# Altium footprint library PowerDistribution.PcbLib: 27 footprints (part 2 of 2)
Each footprint in its own frame and in the unit in brackets; x right, y up, seen from the top. Pads: shape width x height; smd on the part's side, far side on the other; paste and mask are expansions set on the pad; w line width, h text height; cw(c..) or ccw(c..) is an arc to the next point about the centre after c.
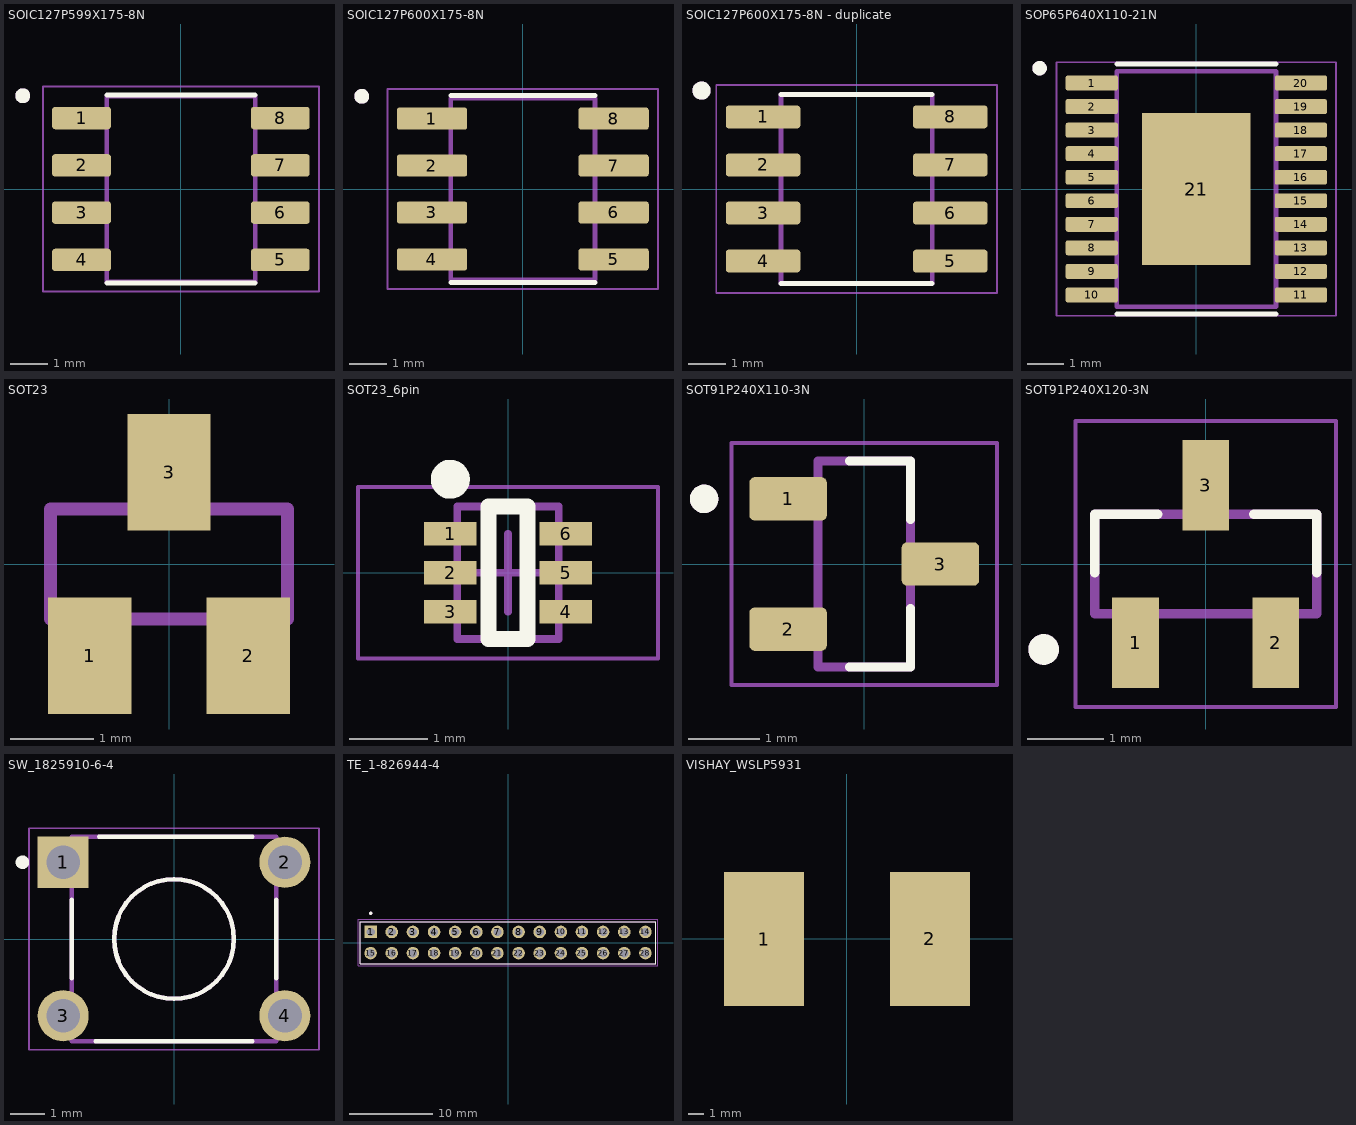
[diagram p1: the footprints below, top view; thin cyan lines are the x and y axes]

## SOIC127P599X175-8N [mm]
pads (8):
  rrect25% 1.58x0.6 smd: 1(-2.67,1.905) 2(-2.67,0.635) 3(-2.67,-0.635) 4(-2.67,-1.905) 5(2.67,-1.905) 6(2.67,-0.635) 7(2.67,0.635) 8(2.67,1.905)
Top Overlay:
  circle w0.2: c-4.25,2.505 r0.1
  lines w0.127: -1.995,-2.525 1.995,-2.525 ; -1.995,2.525 1.995,2.525
Mechanical 13:
  circle w0.2: c-4.25,2.505 r0.1
  lines w0.127: -1.995,-2.5 -1.995,2.5 1.995,2.5 1.995,-2.5 -1.995,-2.5
Mechanical 15:
  lines w0.05: -3.71,-2.75 -3.71,2.75 3.71,2.75 3.71,-2.75 -3.71,-2.75
3D body "step_temp.STEP": height 1.75, standoff 0, extent -3,-2.45 3,2.45

## SOIC127P600X175-8N [mm]
pads (8):
  rrect25% 1.9x0.6 smd: 1(-2.455,1.905) 2(-2.455,0.635) 3(-2.455,-0.635) 4(-2.455,-1.905) 5(2.455,-1.905) 6(2.455,-0.635) 7(2.455,0.635) 8(2.455,1.905)
Top Overlay:
  circle w0.2: c-4.355,2.505 r0.1
  lines w0.127: -1.95,-2.525 1.95,-2.525 ; -1.95,2.525 1.95,2.525
Mechanical 13:
  circle w0.2: c-4.355,2.505 r0.1
  lines w0.127: -1.95,-2.45 1.95,-2.45 1.95,2.45 -1.95,2.45 -1.95,-2.45
Mechanical 15:
  lines w0.05: -3.655,-2.7 3.655,-2.7 3.655,2.7 -3.655,2.7 -3.655,-2.7

## SOIC127P600X175-8N - duplicate [mm]
pads (8):
  rrect25% 1.97x0.6 smd: 1(-2.475,1.905) 2(-2.475,0.635) 3(-2.475,-0.635) 4(-2.475,-1.905) 5(2.475,-1.905) 6(2.475,-0.635) 7(2.475,0.635) 8(2.475,1.905)
Top Overlay:
  circle w0.24: c-4.1,2.6 r0.12
  lines w0.127: -2,-2.5 2,-2.5 ; -2,2.5 2,2.5
Mechanical 13:
  circle w0.24: c-4.1,2.6 r0.12
  lines w0.127: -2,-2.5 2,-2.5 2,2.5 -2,2.5 -2,-2.5
Mechanical 15:
  lines w0.05: -3.71,-2.75 3.71,-2.75 3.71,2.75 -3.71,2.75 -3.71,-2.75

## SOP65P640X110-21N [mm]
pads (21):
  rrect25% 1.44x0.41 smd: 1(-2.885,2.925) 2(-2.885,2.275) 3(-2.885,1.625) 4(-2.885,0.975) 5(-2.885,0.325) 6(-2.885,-0.325) 7(-2.885,-0.975) 8(-2.885,-1.625) 9(-2.885,-2.275) 10(-2.885,-2.925) 11(2.885,-2.925) 12(2.885,-2.275) 13(2.885,-1.625) 14(2.885,-0.975) 15(2.885,-0.325) 16(2.885,0.325) 17(2.885,0.975) 18(2.885,1.625) 19(2.885,2.275) 20(2.885,2.925)
  rect 3x4.2 smd paste-3: 21(0,0)
Top Overlay:
  circle w0.2: c-4.325,3.335 r0.1
  lines w0.127: -2.2,-3.45 2.2,-3.45 ; -2.2,3.45 2.2,3.45
Top Paste:
  region: 0.75,-1.05 -0.75,-1.05 -0.75,1.05 0.75,1.05
Mechanical 13:
  circle w0.2: c-4.325,3.335 r0.1
  lines w0.127: -2.2,-3.25 -2.2,3.25 2.2,3.25 2.2,-3.25 -2.2,-3.25
Mechanical 15:
  lines w0.05: -3.855,-3.5 -3.855,3.5 3.855,3.5 3.855,-3.5 -3.855,-3.5

## SOT23 [mm]
pads (3):
  rect 1x1.4 smd: 1(-0.95,-1.1) 2(0.95,-1.1) 3(0,1.1)
Mechanical 13:
  region: 0.229,0.711 -0.229,0.711 -0.229,1.295 0.229,1.295
  region: 1.168,-1.295 0.711,-1.295 0.711,-0.711 1.168,-0.711
  region: -0.711,-1.295 -1.168,-1.295 -1.168,-0.711 -0.711,-0.711
  lines w0.152: -1.422,-0.66 1.422,-0.66 1.422,0.66 -1.422,0.66 -1.422,-0.66

## SOT23_6pin [mm] "SOT23, 6-Leads, Body 1.60x2.45mm, Pitch 0.50mm, IPC Medium Density"
height 0.6
pads (6):
  rect 0.67x0.3 smd: 1(-0.74,0.5) 2(-0.74,0) 3(-0.74,-0.5) 4(0.74,-0.5) 5(0.74,0) 6(0.74,0.5)
Top Overlay:
  circle w0.25: c-0.74,1.2 r0.125
  lines w0.2: -0.25,-0.85 0.25,-0.85 0.25,0.85 -0.25,0.85 -0.25,-0.85
Mechanical 13:
  lines w0.1: -0.65,-0.85 -0.65,0.85 0.65,0.85 0.65,-0.85 -0.65,-0.85
Mechanical 15:
  lines w0.05: -1.925,-1.1 -1.925,1.1 1.925,1.1 1.925,-1.1 -1.925,-1.1
  lines w0.1: -0.5,0 0.5,0 ; 0,-0.5 0,0.5
3D body: height 0.6, standoff 0.05, extent -0.65,-0.85 0.65,0.85

## SOT91P240X110-3N [mm]
height 1.1
pads (3):
  rrect25% 1.09x0.61 smd: 1(-1.07,0.915) 2(-1.07,-0.915) 3(1.07,0)
Top Overlay:
  circle w0.2: c-2.25,0.915 r0.1
  lines w0.127: -0.205,-1.45 0.65,-1.45 0.65,-0.625 ; -0.205,1.45 0.65,1.45 0.65,0.625
Mechanical 13:
  circle w0.2: c-2.25,0.915 r0.1
  lines w0.127: -0.65,-1.45 0.65,-1.45 0.65,1.45 -0.65,1.45 -0.65,-1.45
Mechanical 15:
  lines w0.05: -1.865,-1.7 -1.865,1.7 1.865,1.7 1.865,-1.7 -1.865,-1.7
3D body "step_temp.STEP": height 1.2, standoff 0, extent -1.2,-1.45 1.2,1.45

## SOT91P240X120-3N [mm]
pads (3):
  rect 0.61x1.18 smd: 1(-0.915,-1.025) 2(0.915,-1.025) 3(0,1.025)
Top Overlay:
  circle w0.2: c-2.115,-1.115 r0.1
  lines w0.127: -1.45,-0.115 -1.45,0.65 -0.625,0.65 ; 0.625,0.65 1.45,0.65 1.45,-0.115
Mechanical 13:
  circle w0.2: c-2.115,-1.115 r0.1
  lines w0.127: -1.45,-0.65 -1.45,0.65 1.45,0.65 1.45,-0.65 -1.45,-0.65
Mechanical 15:
  lines w0.05: -1.7,-1.865 1.7,-1.865 1.7,1.865 -1.7,1.865 -1.7,-1.865
3D body "step_temp.STEP": height 1.15, standoff 0, extent -1.2,-1.45 1.2,1.45

## SW_1825910-6-4 [mm]
pads (4):
  rect 1.498x1.498 / inner round 1.498 / far side rect 1.498x1.498 hole 0.99: 1(-3.25,2.25)
  round 1.498 hole 0.99: 2(3.25,2.25) 3(-3.25,-2.25) 4(3.25,-2.25)
Top Overlay:
  circle w0.2: c-4.445,2.25 r0.1
  circle w0.127: c0,0 r1.755
  lines w0.127: -2.995,-1.15 -2.995,1.15 ; -2.3,-2.995 2.3,-2.995 ; -2.2,2.995 2.3,2.995 ; 3,-1.15 3,1.15
Mechanical 13:
  circle w0.127: c0,0 r1.755
  lines w0.127: -2.995,-2.995 2.995,-2.995 2.995,2.995 -2.995,2.995 -2.995,-2.995
Mechanical 15:
  lines w0.05: -4.25,-3.25 4.25,-3.25 4.25,3.25 -4.25,3.25 -4.25,-3.25
3D body "step_temp.STEP": height 5.01, standoff -3.51, extent -2.995,-3.9 2.995,3.898

## TE_1-826944-4 [mm]
pads (28):
  rect 1.508x1.508 hole 1: 1(-16.51,1.27)
  round 1.508 hole 1: 2(-13.97,1.27) 3(-11.43,1.27) 4(-8.89,1.27) 5(-6.35,1.27) 6(-3.81,1.27) 7(-1.27,1.27) 8(1.27,1.27) 9(3.81,1.27) 10(6.35,1.27) 11(8.89,1.27) 12(11.43,1.27) 13(13.97,1.27) 14(16.51,1.27) 15(-16.51,-1.27) 16(-13.97,-1.27) 17(-11.43,-1.27) 18(-8.89,-1.27) 19(-6.35,-1.27) 20(-3.81,-1.27) 21(-1.27,-1.27) 22(1.27,-1.27) 23(3.81,-1.27) 24(6.35,-1.27) 25(8.89,-1.27) 26(11.43,-1.27) 27(13.97,-1.27) 28(16.51,-1.27)
Top Overlay:
  circle w0.2: c-16.51,3.52 r0.1
  lines w0.127: -17.78,-2.52 -17.78,2.52 17.78,2.52 17.78,-2.52 -17.78,-2.52
Mechanical 13:
  circle w0.2: c-16.51,3.52 r0.1
  lines w0.127: -17.78,-2.52 -17.78,2.52 17.78,2.52 17.78,-2.52 -17.78,-2.52
Mechanical 15:
  lines w0.05: -18.03,-2.77 -18.03,2.77 18.03,2.77 18.03,-2.77 -18.03,-2.77

## VISHAY_WSLP5931 [mm]
pads (2):
  rect 5.2x8.75 smd: 1(-5.4,-0.002) 2(5.4,0)